# EAGLE library part ADXL345 (library Pod3 Lib)
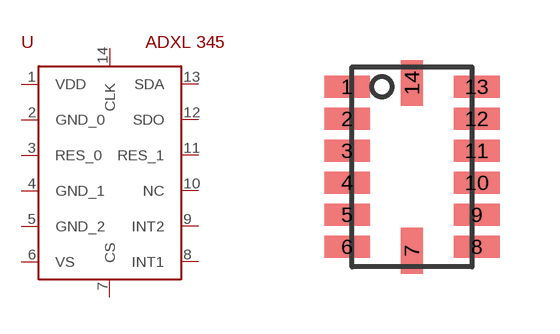
[diagram p0: symbol with the pads of ADXL345; footprint ADXL345]

Designator prefix -

## ADXL345  [ADXL345]
1  VDD
2  GND_0
3  RES_0
4  GND_1
5  GND_2
6  VS
7  CS
8  INT1
9  INT2
10  NC
11  RES_1
12  SDO
13  SDA
14  CLK

## Footprint ADXL345 (pad centres in mm)
smd 1.145 x 0.55: 1 -1.623,2; 2 -1.623,1.2; 3 -1.623,0.4; 4 -1.623,-0.4; 5 -1.623,-1.2; 6 -1.623,-2; 8 1.623,-2; 9 1.623,-1.2; 10 1.623,-0.4; 11 1.623,0.4; 12 1.623,1.2; 13 1.623,2
smd 0.55 x 1.145: 7 0,-2.098; 14 0,2.098